# Altium integrated library Memory.IntLib: 11 symbols
Pins are listed as number, name and electrical type; pins without a type are passive.

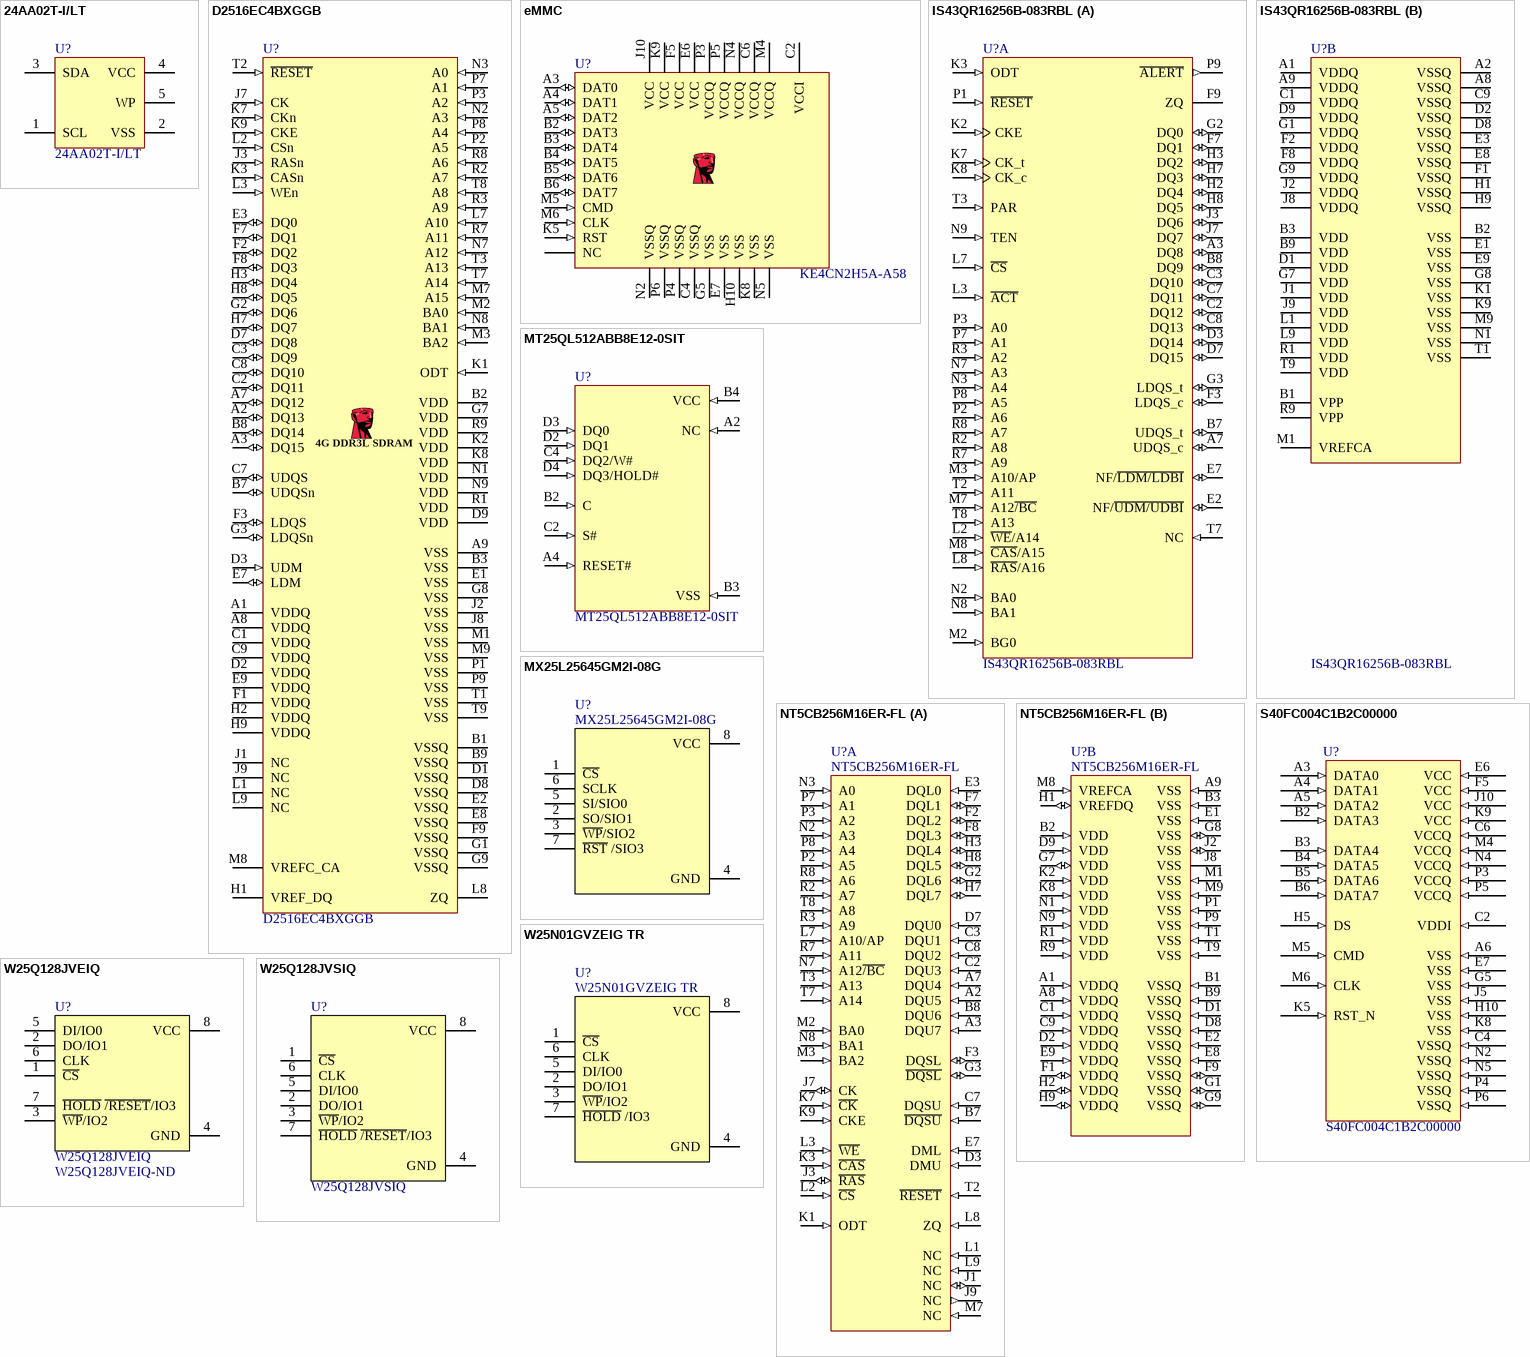
[diagram p0: symbols 24AA02T-I/LT to W25Q128JVSIQ]

## 24AA02T-I/LT
designator U?
EEPROM; Microchip; 24AA02T-I/LT; I2C, Serial; 1.7 V - 5.5 V; EEPROM; 400 Khz; Manufacturer Lifecycle Status: REL; Density: 2kb; Frequency: 400kHz; Clock Frequency: 100kHz; Max Supply Voltage: 5.5V; Memory Size: 256B; Min Supply Voltage: 1.7V; Nominal Supply Current: 3mA; Operating Supply Voltage: 5V; Supplier: DigiKey; Supplier Part Number: 24AA02T-I/LTCT-ND; Manufacturer: Microchip; Manufacturer Part Number: 24AA02T-I/LT; RoHS: Compliant; Category: EEPROM; Stock: 13256; Pricing: 1=0,35 (USD); Projected EOL Date: 2034-10-21; Case/Package: SC; Contact Plating: Tin; Country of Assembly: Thailand; Country of Fabrication: United States of America; Country of Origin: Thailand; Export Control Classification Number (ECCN) Code: EAR99; HS Code: 8542.32.0051; Harmonized Tariff Schedule (HTS) Code: 8542.32.0051; Interface: I2C, Serial; Introduction Date: 2008-10-21; Lead Free: Lead Free; Lifecycle Status: Production; Max Operating Temperature: 85°C; Memory Format: EEPROM; Min Operating Temperature: -40°C; Mounting Technology: Surface Mount; Pins: 5; Packaging: Cut Tape; Radiation Hardening: No; Schedule B: 8542320050, 8542320050|8542320050|8542320050|8542320050|8542320050; ComponentLink1URL: https://datasheet.octopart.com:443/24AA02T-I/LT-Microchip-datasheet-7546411.pdf?src-supplier=SHENGYU+ELECTRONICS; ComponentLink1Description: https://datasheet.octopart.com:443/24AA02T-I/LT-Microchip-datasheet-7546411.pdf?src-supplier=SHENGYU+ELECTRONICS; ComponentLink2URL: https://datasheet.octopart.com:443/24AA02T-I-LT-Microchip-datasheet-190237425.pdf?src-supplier=Microchip; ComponentLink2Description: https://datasheet.octopart.com:443/24AA02T-I-LT-Microchip-datasheet-190237425.pdf?src-supplier=Microchip; ComponentLink3URL: https://datasheet.octopart.com:443/24AA02T-I-LT-Microchip-datasheet-158668586.pdf?src-supplier=Microchip; ComponentLink3Description: https://datasheet.octopart.com:443/24AA02T-I-LT-Microchip-datasheet-158668586.pdf?src-supplier=Microchip; ComponentLink4URL: https://datasheet.octopart.com:443/24AA02T-I-LT-Microchip-datasheet-137126732.pdf?src-supplier=Microchip+SCT; ComponentLink4Description: https://datasheet.octopart.com:443/24AA02T-I-LT-Microchip-datasheet-137126732.pdf?src-supplier=Microchip+SCT; ComponentLink5URL: https://datasheet.octopart.com:443/24AA02T-I/LT-Microchip-datasheet-8329871.pdf?src-supplier=Future+Electronics; ComponentLink5Description: https://datasheet.octopart.com:443/24AA02T-I/LT-Microchip-datasheet-8329871.pdf?src-supplier=Future+Electronics; ComponentLink6URL: http://sigma.octopart.com:80/188449426/materials_sheet/Microchip-24AA02T-I-LT.pdf?src-supplier=Compliance+Statements; ComponentLink6Description: http://sigma.octopart.com:80/188449426/materials_sheet/Microchip-24AA02T-I-LT.pdf?src-supplier=Compliance+Statements; ComponentLink7URL: http://sigma.octopart.com:80/rohs_statement/Microchip-company-71.pdf?src-supplier=Compliance+Statements; ComponentLink7Description: http://sigma.octopart.com:80/rohs_statement/Microchip-company-71.pdf?src-supplier=Compliance+Statements; ComponentLink8URL: http://sigma.octopart.com:80/reach_statement/Microchip-company-70.pdf?src-supplier=Compliance+Statements; ComponentLink8Description: http://sigma.octopart.com:80/reach_statement/Microchip-company-70.pdf?src-supplier=Compliance+Statements; ComponentLink9URL: http://sigma.octopart.com:80/conflict_mineral_statement/Microchip-company-69.pdf?src-supplier=Compliance+Statements; ComponentLink9Description: http://sigma.octopart.com:80/conflict_mineral_statement/Microchip-company-69.pdf?src-supplier=Compliance+Statements; ComponentLink10URL: http://sigma.octopart.com:80/conflict_mineral_statement/Microchip-company-68.pdf?src-supplier=Compliance+Statements; ComponentLink10Description: http://sigma.octopart.com:80/conflict_mineral_statement/Microchip-company-68.pdf?src-supplier=Compliance+Statements
footprint SOT65P210X110-5N (SOT23, 5-Leads, Body 2,00x2,10mm, Pitch 0,65mm, IPC Medium Density)
pins: 1 SCL, 2 VSS, 3 SDA, 4 VCC, 5 WP

## D2516EC4BXGGB
designator U?
DRAM Chip DDR3L SDRAM 4Gbit 256Mx16 1.35V; Manuf1: Kingston; Populated: Yes; Value: D2516EC4BXGGB; Manuf1Partnumber: D2516EC4BXGGB; Code_JEDEC: *; PackageReference: FBGA96; ROHS: Yes; LifeCycle: Checked; ComponentLink1Description: Datasheet; ComponentLink1URL: http://www.datasheetspdf.com/datasheet/download.php?id=855386; Supplier 1: Arrow
footprint BGA96_T9_P8_9X14
pins: A1 VDDQ (power), A2 DQ13 (io), A3 DQ15 (io), A7 DQ12 (io), A8 VDDQ (power), A9 VSS (power), B1 VSSQ (power), B2 VDD (power), B3 VSS (power), B7 UDQSn (io), B8 DQ14 (io), B9 VSSQ (power), C1 VDDQ (power), C2 DQ11 (io), C3 DQ9 (io), C7 UDQS (io), C8 DQ10 (io), C9 VDDQ (power), D1 VSSQ (power), D2 VDDQ (power), D3 UDM (in), D7 DQ8 (io), D8 VSSQ (power), D9 VDD (power), E1 VSS (power), E2 VSSQ (power), E3 DQ0 (io), E7 LDM (io), E8 VSSQ (power), E9 VDDQ (power), F1 VDDQ (power), F2 DQ2 (io), F3 LDQS (io), F7 DQ1 (io), F8 DQ3 (io), F9 VSSQ (power), G1 VSSQ (power), G2 DQ6 (io), G3 LDQSn (io), G7 VDD (power), G8 VSS (power), G9 VSSQ (power), H1 VREF_DQ, H2 VDDQ (power), H3 DQ4 (io), H7 DQ7 (io), H8 DQ5 (io), H9 VDDQ (power), J1 NC, J2 VSS (power), J3 RASn (in), J7 CK (in), J8 VSS (power), J9 NC, K1 ODT (in), K2 VDD (power), K3 CASn (in), K7 CKn (in), K8 VDD (power), K9 CKE (in), L1 NC (power), L2 CSn (in), L3 WEn (in), L7 A10 (in), L8 ZQ, L9 NC (power), M1 VSS (power), M2 BA0 (in), M3 BA2 (in), M7 A15 (in), M8 VREFC_CA (power), M9 VSS (power), N1 VDD (power), N2 A3 (in), N3 A0 (in), N7 A12 (in), N8 BA1 (in), N9 VDD (power), P1 VSS (power), P2 A5 (in), P3 A2 (in), P7 A1 (in), P8 A4 (in), P9 VSS (power), R1 VDD (power), R2 A7 (in), R3 A9 (in), R7 A11 (in), R8 A6 (in), R9 VDD (power), T1 VSS (power), T2 ~{RESET} (in), T3 A13 (in), T7 A14 (in), T8 A8 (in), T9 VSS (power)
text: 4G DDR3L SDRAM

## eMMC
designator U?, comment KE4CN2H5A-A58
Flash Card 4G-byte 3.3V MultiMedia Card 153-Pin WFBGA; Manufacturer: Micron Technology; Manufacturer Part Number: MTFC2GMVEA-0M WT; Lead Time: 2 weeks; RoHS: CHINA ROHS: Compliant / EU ROHS: Compliant; Package Quantity: 1; EU_ROHS_PROD_EXEMPTION_BY_SUPP: N/R; ComponentLink1URL: http://components.arrow.com/partservice/dataview/altium/53710993S251949N2406?apiKey=aa438727d59eed98c4bed826d8d949c84cb5e685b92bf87346a0226bd2658797; ComponentLink1Description: http://components.arrow.com/partservice/dataview/altium/53710993S251949N2406?apiKey=aa438727d59eed98c4bed826d8d949c84cb5e685b92bf87346a0226bd2658797; Value: KE4CN2H5A-A58
footprint BGA153_P14_P5_11P5X13
pins: A3 DAT0 (io), A4 DAT1 (io), A5 DAT2 (io), B2 DAT3 (io), B3 DAT4 (io), B4 DAT5 (io), B5 DAT6 (io), B6 DAT7 (io), C2 VCCI (power), C4 VSSQ (power), C6 VCCQ (power), E6 VCC (power), E7 VSS (power), F5 VCC (power), G5 VSS (power), H10 VSS (power), J10 VCC (power), K5 RST (in), K6, N6, E5, N9, N8, N7, J12, P14, N3, P10, N1, M14, M13, M12, M11, M10, M9, M8, M7, P11, P12, P13, M3, M2, M1, L14, L13, L12, A10, A11, A12, A13, A14, B1, B7, G1, L3, L2, L1, K14, K13, K12, G2, K10, G3, G10, K7, N11, N10, B8, K3, K2, K1, J14, J13, N12, N13, N14, P1, P2, P7, P9, P8, J5, J3, J2, J1, H14, H13, H12, B9, B10, B11, B12, B13, D1, H5, D2, H3, H2, H1, G14, G13, G12, D3, D4, D12, D13, D14, C1, C3, C5, C7, C8, C9, F14, F13, F12, C10, F10, C11, C12, C13, C14, B14, A9, F3, F2, F1, E14, E13, E12, A1, E10, E9, E8, A8, A7, A6, A2, E3, E2, E1 NC, K8 VSS (power), K9 VCC (power), M4 VCCQ (power), M5 CMD (in), M6 CLK (in), N2 VSSQ (power), N4 VCCQ (power), N5 VSS (power), P3 VCCQ (power), P4 VSSQ (power), P5 VCCQ (power), P6 VSSQ (power)

## IS43QR16256B-083RBL
designator U?
4G, 1.2V, DDR4, 256Mx16, 2400MT/s @ 16-16-16, 96 ball BGA (7.5mm x13.5mm) RoHS; Manufacturer: ISSI; Supplier: Digi-Key; Supplier Part Number: 706-1733-ND; Manufacturer Part Number: IS43QR16256B-083RBL; RoHS: No; Category: Memory; Stock: 658; Pricing: 1=9,37000, 10=8,68100, 25=8,48400, 40=8,43850, 198=7,42854, 396=7,05990, 594=6,98919, 990=6,75690 (USD)
footprint BGA96C80P9X16_750X1350X120 (BGA, 96-Leads, Body 7,50x13,50mmx1,20mm, Pitch 0,80mm)
part A pins: A3 DQ8 (io), A7 UDQS_c (io), B7 UDQS_t (io), B8 DQ9 (io), C2 DQ12 (io), C3 DQ10 (io), C7 DQ11 (io), C8 DQ13 (io), D3 DQ14 (io), D7 DQ15 (io), E2 NF/~{UDM/UDBI} (io), E7 NF/~{LDM/LDBI} (io), F3 LDQS_c (io), F7 DQ1 (io), F9 ZQ, G2 DQ0 (io), G3 LDQS_t (io), H2 DQ4 (io), H3 DQ2 (io), H7 DQ3 (io), H8 DQ5 (io), J3 DQ6 (io), J7 DQ7 (io), K2 CKE (in), K3 ODT (in), K7 CK_t (in), K8 CK_c (in), L2 ~{WE}/A14 (in), L3 ~{ACT} (in), L7 ~{CS} (in), L8 ~{RAS}/A16 (in), M2 BG0 (in), M3 A10/AP (in), M7 A12~{/BC} (in), M8 ~{CAS}/A15 (in), N2 BA0 (in), N3 A4 (in), N7 A3 (in), N8 BA1 (in), N9 TEN (in), P1 ~{RESET} (in), P2 A6 (in), P3 A0 (in), P7 A1 (in), P8 A5 (in), P9 ~{ALERT} (out), R2 A8 (in), R3 A2 (in), R7 A9 (in), R8 A7 (in), T2 A11 (in), T3 PAR (in), T7 NC (in), T8 A13 (in)
part B pins: A1 VDDQ (power), A2 VSSQ (power), A8 VSSQ (power), A9 VDDQ (power), B1 VPP (power), B2 VSS (power), B3 VDD (power), B9 VDD (power), C1 VDDQ (power), C9 VSSQ (power), D1 VDD (power), D2 VSSQ (power), D8 VSSQ (power), D9 VDDQ (power), E1 VSS (power), E3 VSSQ (power), E8 VSSQ (power), E9 VSS (power), F1 VSSQ (power), F2 VDDQ (power), F8 VDDQ (power), G1 VDDQ (power), G7 VDD (power), G8 VSS (power), G9 VDDQ (power), H1 VSSQ (power), H9 VSSQ (power), J1 VDD (power), J2 VDDQ (power), J8 VDDQ (power), J9 VDD (power), K1 VSS (power), K9 VSS (power), L1 VDD (power), L9 VDD (power), M1 VREFCA (power), M9 VSS (power), N1 VSS (power), R1 VDD (power), R9 VPP (power), T1 VSS (power), T9 VDD (power)

## MT25QL512ABB8E12-0SIT
designator U?
NOR Flash Serial-SPI 3V/3.3V 512M-bit 64M/32M/16M x 1/2-bit/4-bit 6ns 24-Pin TPBGA T/R; Manufacturer: Micron Technology; Memory Format: FLASH,NOR; Interface: SPI,Serial; Supplier: Digi-Key; Supplier Part Number: MT25QL512ABB8E12-0SIT-ND; Manufacturer Part Number: MT25QL512ABB8E12-0SIT; RoHS: Yes; Category: Flash; Stock: 736; Pricing: 1=9,60000, 10=8,88900, 25=8,68760, 40=8,64100, 80=7,60688, 230=7,22935, 440=7,15693, 1122=6,91906 (USD); Case/Package: TBGA; Min Operating Temperature: -40°C; Max Operating Temperature: 85°C; Packaging: Tape and Reel; Series: -; RoHS Compliant: Yes; ComponentLink1URL: https://www.micron.com/~/media/documents/products/data-sheet/nor-flash/serial-nor/mt25q/die-rev-b/mt25q_qlkt_l_512_abb_0.pdf?src-supplier=Digi-Key; ComponentLink1Description: https://www.micron.com/~/media/documents/products/data-sheet/nor-flash/serial-nor/mt25q/die-rev-b/mt25q_qlkt_l_512_abb_0.pdf?src-supplier=Digi-Key; ComponentLink2URL: https://datasheet.octopart.com/MT25QL512ABB8E12-0SIT-Micron-datasheet-163656713.pdf?src-supplier=SHENGYU+ELECTRONICS; ComponentLink2Description: https://datasheet.octopart.com/MT25QL512ABB8E12-0SIT-Micron-datasheet-163656713.pdf?src-supplier=SHENGYU+ELECTRONICS
footprint BGA24C100P5X5_600X800X120 (BGA, 24-Leads, Body 6,00x8,00mmx1,20mm, Pitch 1,00mm)
pins: A2 NC (in), A4 RESET# (in), B2 C (in), B3 VSS (in), B4 VCC (in), C2 S# (in), C4 DQ2/W# (in), D2 DQ1 (in), D3 DQ0 (in), D4 DQ3/HOLD# (in)

## MX25L25645GM2I-08G
designator U?
Surface Mount Tube FLASH - NOR FLASH ic memory 120MHz 30mus 750mus 256Mb 32M x 8 2.7V~3.6V; Manufacturer: Macronix; Interface: Serial; Max Supply Current: 25mA; Max Supply Voltage: 3.6V; Memory Size: 32MB; Min Supply Voltage: 2.7V; Nominal Supply Voltage (DC): 3V; Number of Circuits: 1; Supplier: DigiKey; Supplier Part Number: 1092-1234-ND; Manufacturer Part Number: MX25L25645GM2I-08G; RoHS: Compliant; Category: Flash; Stock: 14888; Pricing: 1=6,29, 10=5,856, 25=5,6808, 92=5,43098, 184=5,29897, 276=5,22221, 552=5,09221, 1012=4,98 (USD); Case/Package: SOP; Country of Origin: Taiwan; Export Control Classification Number (ECCN) Code: EAR99; Height - Seated (Max): 2.16mm; Harmonized Tariff Schedule (HTS) Code: 8542.32.00.51; Introduction Date: 2016-02-22; Length: 5.28mm; Lifecycle Status: Production; Clock Frequency: 120MHz; Max Operating Temperature: 85°C; Memory Format: FLASH; Min Operating Temperature: -40°C; Number of Terminals: 8; REACH SVHC: Yes; Schedule B: 8542320070, 8542320070|8542320070|8542320070|8542320070|8542320070; Temperature Grade: Industrial; Terminal Pitch: 1.27mm; Width: 5.23mm; ComponentLink1URL: https://datasheet.octopart.com:443/MX25L25645GM2I-08G-Macronix-datasheet-180618844.pdf?src-supplier=IHS; ComponentLink1Description: https://datasheet.octopart.com:443/MX25L25645GM2I-08G-Macronix-datasheet-180618844.pdf?src-supplier=IHS; ComponentLink2URL: https://datasheet.octopart.com:443/MX25L25645GM2I-08G-Macronix-datasheet-145013762.pdf?src-supplier=ODG+(Origin+Data+Global); ComponentLink2Description: https://datasheet.octopart.com:443/MX25L25645GM2I-08G-Macronix-datasheet-145013762.pdf?src-supplier=ODG+(Origin+Data+Global); ComponentLink3URL: https://datasheet.octopart.com:443/MX25L25645GM2I-08G-Macronix-datasheet-101783923.pdf?src-supplier=SHENGYU+ELECTRONICS; ComponentLink3Description: https://datasheet.octopart.com:443/MX25L25645GM2I-08G-Macronix-datasheet-101783923.pdf?src-supplier=SHENGYU+ELECTRONICS
footprint SOP127P790X216-8N (SOP, 8-Leads, Body 5,23x5,28mm, Pitch 1,27mm, IPC Medium Density)
pins: 1 ~{CS}, 2 SO/SIO1, 3 ~{WP}/SIO2, 4 GND, 5 SI/SIO0, 6 SCLK, 7 ~{RST} /SIO3, 8 VCC

## NT5CB256M16ER-FL
designator U?
4Gbit 1.425V~1.575V 1.066GHz SDRAM DDR3 TFBGA-96 Memory (ICs) RoHS; Manufacturer: NANYA; Manufacturer Part Number: NT5CB256M16ER-FL; LCSC: C2841154; ComponentLink1Description: LCSC LINK; ComponentLink1URL: https://www.lcsc.com/product-detail/C2841154.html; ComponentLink2Description: Datasheet; ComponentLink2URL: https://www.lcsc.com/datasheet/C2841154.pdf
footprint BGA96C80P9X16_800X1300X120 (BGA, 96-Leads, Body 8,00x13,00mmx1,20mm, Pitch 0,80mm)
part A pins: A2 DQU5 (in), A3 DQU7 (in), A7 DQU4 (in), B7 ~{DQSU} (in), B8 DQU6 (in), C2 DQU3 (in), C3 DQU1 (in), C7 DQSU (in), C8 DQU2 (in), D3 DMU (in), D7 DQU0 (in), E3 DQL0 (in), E7 DML (in), F2 DQL2 (io), F3 DQSL (io), F7 DQL1 (io), F8 DQL3 (io), G2 DQL6 (io), G3 ~{DQSL} (io), H3 DQL4 (io), H7 DQL7 (io), H8 DQL5 (io), J1 NC (io), J3 ~{RAS} (io), J7 CK (io), J9 NC (out), K1 ODT (in), K3 ~{CAS} (in), K7 ~{CK} (in), K9 CKE (in), L1 NC (in), L2 ~{CS} (in), L3 ~{WE} (in), L7 A10/AP (in), L8 ZQ (in), L9 NC (in), M2 BA0 (in), M3 BA2 (in), M7 NC (in), N2 A3 (in), N3 A0 (in), N7 A12~{/BC} (in), N8 BA1 (in), P2 A5 (in), P3 A2 (in), P7 A1 (in), P8 A4 (in), R2 A7 (in), R3 A9 (in), R7 A11 (in), R8 A6 (in), T2 ~{RESET} (in), T3 A13 (in), T7 A14 (in), T8 A8 (in)
part B pins: A1 VDDQ (in), A8 VDDQ (in), A9 VSS (in), B1 VSSQ (in), B2 VDD (in), B3 VSS (in), B9 VSSQ (in), C1 VDDQ (in), C9 VDDQ (in), D1 VSSQ (in), D2 VDDQ (in), D8 VSSQ (in), D9 VDD (in), E1 VSS (in), E2 VSSQ (in), E8 VSSQ (in), E9 VDDQ (in), F1 VDDQ (io), F9 VSSQ (io), G1 VSSQ (io), G7 VDD (io), G8 VSS (io), G9 VSSQ (io), H1 VREFDQ (io), H2 VDDQ (io), H9 VDDQ (io), J2 VSS (io), J8 VSS, K2 VDD (in), K8 VDD (in), M1 VSS (in), M8 VREFCA (in), M9 VSS (in), N1 VDD (in), N9 VDD (in), P1 VSS (in), P9 VSS (in), R1 VDD (in), R9 VDD (in), T1 VSS (in), T9 VSS (in)

## S40FC004C1B2C00000
designator U?
Manufacturer: SKYHIGH MEMORY; Supplier: Mouser; Supplier Part Number: 727-S40FC004C1B2C000; Manufacturer Part Number: S40FC004C1B2C00000; RoHS: No; Stock: 2432; Pricing: 1=8,19000, 10=7,54000, 25=7,38000, 50=7,38000, 100=6,60000, 225=6,39000, 450=6,08000, 1000=6,08000, 1125=5,87000, 10000=5,87000 (USD)
footprint BGA153C50P14X14_900X750X80 (BGA, 153-Leads, Body 9,00x7,50mmx0,80mm, Pitch 0,50mm)
pins: A3 DATA0 (in), A4 DATA1 (in), A5 DATA2 (in), A6 VSS (in), B2 DATA3 (in), B3 DATA4 (in), B4 DATA5 (in), B5 DATA6 (in), B6 DATA7 (in), C2 VDDI (in), C4 VSSQ (in), C6 VCCQ (in), E6 VCC (in), E7 VSS (in), F5 VCC (in), G5 VSS (in), H5 DS (in), H10 VSS (in), J5 VSS (in), J10 VCC (in), K5 RST_N (in), K8 VSS (in), K9 VCC (in), M4 VCCQ (in), M5 CMD (in), M6 CLK (in), N2 VSSQ (in), N4 VCCQ (in), N5 VSSQ (in), P3 VCCQ (in), P4 VSSQ (in), P5 VCCQ (in), P6 VSSQ (in)

## W25N01GVZEIG TR
designator U?
SLC NAND Flash Serial (SPI, Dual SPI, Quad SPI) 3V/3.3V 1G-bit 128M x 8 7ns 8-Pin WSON EP T/R; Manufacturer: Winbond; Frequency: 104MHz; Max Supply Voltage: 3.6V; Memory Size: 128MB; Memory Format: FLASH, NAND; Min Supply Voltage: 2.7V; Nominal Supply Current: 25mA; Supplier: DigiKey; Supplier Part Number: 256-W25N01GVZEIGTRCT-ND; Manufacturer Part Number: W25N01GVZEIG TR; RoHS: Compliant; Category: Flash; Stock: 82656; Pricing: 1=4,16, 10=3,883, 25=3,768, 50=3,681, 100=3,594, 250=3,47956, 500=3,39376, 1000=3,30896 (USD); Access Time: 7ns; Ambient Temperature Range High: 85°C; Height: 800µm; Interface: SPI; Max Operating Temperature: 85°C; Min Operating Temperature: -40°C; Schedule B: 8542320070, 8542320070|8542320070, 8542320070|8542320070|8542320070, 8542320070|8542320070|8542320070|8542320070; ComponentLink1URL: https://sigma.octopart.com:443/148393524/technical_drawing/Winbond-W25N01GVZEIG-TR.pdf?src-supplier=Upverter; ComponentLink1Description: https://sigma.octopart.com:443/148393524/technical_drawing/Winbond-W25N01GVZEIG-TR.pdf?src-supplier=Upverter; ComponentLink2URL: https://datasheet.octopart.com:443/W25N01GVZEIG-TR-Winbond-datasheet-148393517.pdf?src-supplier=Upverter; ComponentLink2Description: https://datasheet.octopart.com:443/W25N01GVZEIG-TR-Winbond-datasheet-148393517.pdf?src-supplier=Upverter; ComponentLink3URL: https://datasheet.octopart.com:443/W25N01GVZEIG-TR-Winbond-datasheet-165812306.pdf?src-supplier=ODG+(Origin+Data+Global); ComponentLink3Description: https://datasheet.octopart.com:443/W25N01GVZEIG-TR-Winbond-datasheet-165812306.pdf?src-supplier=ODG+(Origin+Data+Global)
footprint SON127P800X80_HS-9N (SON, 8-Leads, Body 6,00x8,00mm, Pitch 1,27mm, Thermal Pad 4,30x3,40mm, IPC Medium Density)
pins: 1 ~{CS}, 2 DO/IO1, 3 ~{WP}/IO2, 4 GND, 5 DI/IO0, 6 CLK, 7 ~{HOLD} /IO3, 8 VCC

## W25Q128JVEIQ
designator U?  Supplier Part Number 1: W25Q128JVEIQ-ND
ICFLASH128MBIT8WSON; Manufacturer: Winbond; Memory Type: Non-Volatile,FLASH; Memory Size: 128Mb; Frequency: 133MHz; Supplier 1: Digi-Key; Manufacturer Part Number: W25Q128JVEIQ; RoHS: Yes; Category: Flash; Stock 1: 38680; Pricing 1: 1=1,89, 10=1,727, 25=1,6804, 50=1,6716, 100=1,4942, 250=1,48988, 500=1,46738, 1000=1,40508, 5000=1,30818 (USD); Mount: Surface Mount; Min Operating Temperature: -40°C; Max Operating Temperature: 85°C; Packaging: Rail/Tube; Series: SpiFlash®; RoHS Compliant: Yes; ComponentLink1URL: http://www.winbond.com/resource-files/w25q128jv%20revf%2003272018%20plus.pdf?src-supplier=Digi-Key; ComponentLink1Description: http://www.winbond.com/resource-files/w25q128jv%20revf%2003272018%20plus.pdf?src-supplier=Digi-Key
footprint SON127P800X80_HS-9M (SON, 8-Leads, Body 6,00x8,00mm, Pitch 1,27mm, Thermal Pad 4,30x3,40mm, IPC Low Density)
pins: 1 ~{CS}, 2 DO/IO1, 3 ~{WP}/IO2, 4 GND, 5 DI/IO0, 6 CLK, 7 ~{HOLD} ~{/RESET}/IO3, 8 VCC

## W25Q128JVSIQ
designator U?
NOR Flash Serial (SPI, Dual SPI, Quad SPI) 3V/3.3V 128M-bit 16M x 8 6ns 8-Pin SOIC Tube; Manufacturer: Winbond; Memory Format: Non-Volatile,FLASH; Frequency: 133MHz; Memory Size: 128Mb; Max Supply Voltage: 3.6V; Min Supply Voltage: 2.7V; Supplier: Digikey; Supplier Part Number: W25Q128JVSIQ-ND; Manufacturer Part Number: W25Q128JVSIQ; RoHS: Yes; Category: Flash; Stock: 74830; Pricing: 1=1,75, 10=1,549, 25=1,4772, 90=1,38222, 180=1,33339, 270=1,30563, 540=1,25946, 1080=1,21488, 5040=1,12124 (USD); Mounting Technology: Surface Mount; Case/Package: SOIC; Min Operating Temperature: -40°C; Max Operating Temperature: 85°C; Packaging: Tray; Series: SpiFlash®; Height: 2.16mm; RoHS Compliant: Yes; ComponentLink1URL: http://www.winbond.com/resource-files/w25q128jv%20revf%2003272018%20plus.pdf?src-supplier=Digikey; ComponentLink1Description: http://www.winbond.com/resource-files/w25q128jv%20revf%2003272018%20plus.pdf?src-supplier=Digikey
footprint SOIC127P790X216-8N (SOIC, 8-Leads, Body 5,23x5,23mm, Pitch 1,27mm, IPC Medium Density)
pins: 1 ~{CS}, 2 DO/IO1, 3 ~{WP}/IO2, 4 GND, 5 DI/IO0, 6 CLK, 7 ~{HOLD} ~{/RESET}/IO3, 8 VCC